# Altium footprint library Res_Bourns_PTV09A-4020F-A504_eec_MFG.PcbLib: 1 footprints
Each footprint in its own frame and in the unit in brackets; x right, y up, seen from the top. Pads: shape width x height; smd on the part's side, far side on the other; paste and mask are expansions set on the pad; w line width, h text height; cw(c..) or ccw(c..) is an arc to the next point about the centre after c.
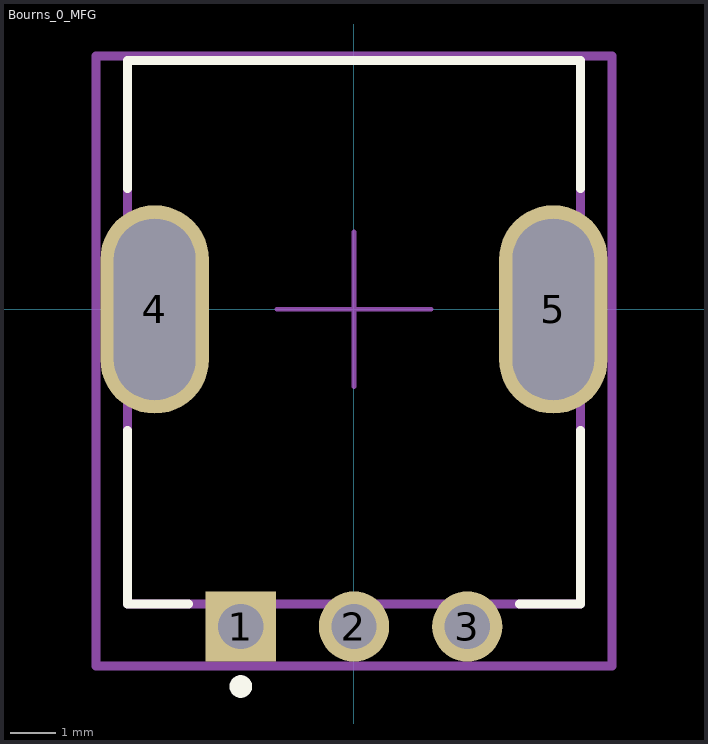
[diagram p0: the footprint, top view; thin cyan lines are the x and y axes]

## Bourns_0_MFG [mm]
pads (5):
  rect 1.55x1.55 hole 1 paste-1000 mask+0: 1(-2.5,-7)
  round 1.55 hole 1 paste-1000 mask+0: 2(0,-7) 3(2.5,-7)
  rrect100% 2.4x4.6 hole 4 slot 1.8 at 0 deg paste-1000 mask+0: 4(-4.4,0) 5(4.4,0)
Top Overlay:
  circle w0.25: c-2.5,-8.325 r0.125
  lines w0.2: -5,-2.675 -5,-6.5 -3.65,-6.5 ; -5,2.675 -5,5.5 5,5.5 5,2.675 ; 3.65,-6.5 5,-6.5 5,-2.675
Mechanical 10:
  lines w0.2: -5.7,-7.875 5.7,-7.875 5.7,5.6 -5.7,5.6 -5.7,-7.875
  text ".Designator" at 0,-0.949 h1
Mechanical 12:
  lines w0.2: -5,-6.5 5,-6.5 5,5.5 -5,5.5 -5,-6.5
Mechanical 15:
  lines w0.1: -1.71,0 1.71,0 ; 0,-1.71 0,1.71
  lines w0.2: -5.7,-7.875 5.7,-7.875 5.7,5.6 -5.7,5.6 -5.7,-7.875
3D body "Res_Bourns_PTV09A-4020F-A504_eec.STEP": height 0.25, standoff 0, extent -5.7,-7.875 5.7,5.6